# Altium schematic symbol library BL6523B.SchLib: 1 symbol
Pins are listed as number, name and electrical type; pins without a type are passive.

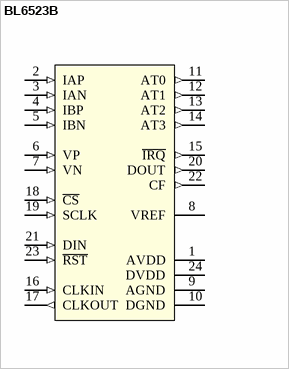
[diagram p0: symbol BL6523B]

## BL6523B
designator U?
Single phase multi-function electric energy metering chip
pins: 1 AVDD (power), 2 IAP (in), 3 IAN (in), 4 IBP (in), 5 IBN (in), 6 VP (in), 7 VN (in), 8 VREF (power), 9 AGND (power), 10 DGND (power), 11 AT0 (out), 12 AT1 (out), 13 AT2 (out), 14 AT3 (out), 15 ~{IRQ} (out), 16 CLKIN (in), 17 CLKOUT (out), 18 ~{CS} (in), 19 SCLK (in), 20 DOUT (out), 21 DIN (in), 22 CF (out), 23 ~{RST} (in), 24 DVDD (power)